# EAGLE library part INA219BID (library INA219BID)
Check availability <https://pricing.snapeda.com/parts/INA219BID/Texas%20Instruments/view-part?ref=eda>
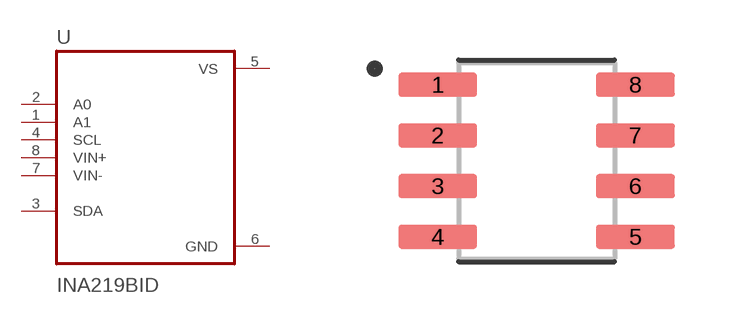
[diagram p0: symbol with the pads of SOIC127P599X175-8N; footprint SOIC127P599X175-8N]

Designator prefix U

## INA219BID (Availability: In Stock; Check_prices: https://www.snapeda.com/parts/INA219BID/Texas+Instruments/view-part/?ref=eda; Description: 26V, 12-bit, i2c output current/voltage/power monitor; MF: Texas Instruments; MP: INA219BID; Package: SOIC-8 Texas Instruments; Price: None; Purchase-URL: https://www.snapeda.com/api/url_track_click_mouser/?unipart_id=228188&manufacturer=Texas Instruments&part_name=INA219BID&search_term=ina219; SnapEDA_Link: https://www.snapeda.com/parts/INA219BID/Texas+Instruments/view-part/?ref=snap)  [SOIC127P599X175-8N]
1  A1  in
2  A0  in
3  SDA
4  SCL  in
5  VS  pwr
6  GND  pwr
7  VIN-  in
8  VIN+  in

## Footprint SOIC127P599X175-8N (pad centres in mm)
smd 1.97 x 0.6: 1 -2.47,1.905; 2 -2.47,0.635; 3 -2.47,-0.635; 4 -2.47,-1.905; 5 2.47,-1.905; 6 2.47,-0.635; 7 2.47,0.635; 8 2.47,1.905